# EAGLE library part SN74LVC157APWR (library SN74LVC157APWR)
These quadruple 2-line to 1-line data selectors/multiplexers are designed for 1.65-V to 3.6-V VCC operation. The 'LVC157A devices feature a common strobe (G) input. When G is high, all outputs are low. When G is low, a 4-bit word is selected from one of two sources and is routed to the four outputs. The devices provide true data.
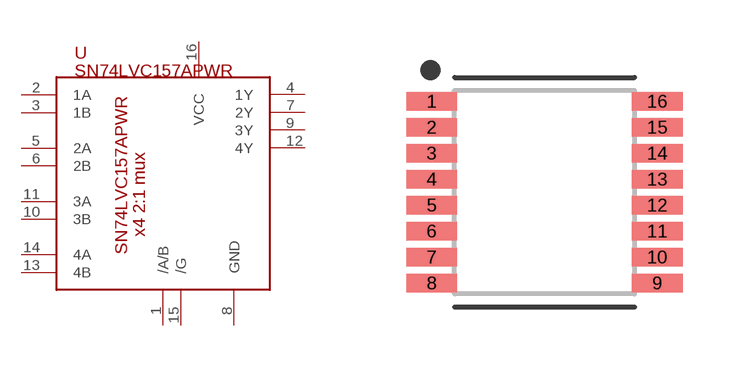
[diagram p0: symbol with the pads of SOP65P640X120-16L; footprint SOP65P640X120-16L]

Designator prefix -

## SN74LVC157APWR  [SOP65P640X120-16L]
1  /A/B
2  1A
3  1B
4  1Y
5  2A
6  2B
7  2Y
8  GND
9  3Y
10  3B
11  3A
12  4Y
13  4B
14  4A
15  /G
16  VCC

## Footprint SOP65P640X120-16L (pad centres in mm)
16-SOP, 0.65 mm pitch, 6.40 mm span, 5.00 X 4.40 X 1.20 mm body 16-pin SOP package with 0.65 mm pitch, 6.40 mm span with body size 5.00 X 4.40 X 1.20 mm
smd 1.272 x 0.47: 1 -2.822,2.275; 2 -2.822,1.625; 3 -2.822,0.975; 4 -2.822,0.325; 5 -2.822,-0.325; 6 -2.822,-0.975; 7 -2.822,-1.625; 8 -2.822,-2.275; 9 2.822,-2.275; 10 2.822,-1.625; 11 2.822,-0.975; 12 2.822,-0.325; 13 2.822,0.325; 14 2.822,0.975; 15 2.822,1.625; 16 2.822,2.275